# EAGLE library part 693041010711 (library WR-CRD)
WR-CRD SIM Card Connectors Characteristics Available in three form factors: Mini, Micro and Nano Available in three entry types: Push-Pull, Hinge and Push-Push Compatible with SIM and MegaSIM standards Applications Mobile Broadband Communication Internet of Things Fleet Management Security and Authentication Machine-to-Machine Communication <https://www.we-online.com/components/media/o732987v209%20693021020811_Multi-parts.jpg> Details see: www.we-online.com/components/products/WR_CRD_CARD_CONNECTOR_SIM <www.we-online.com/catalog/WR_CRD_CARD_CONNECTOR_SIM/?utm_source=eagle_model&utm_medium=description_link&utm_campaign=eisos_eagle> Created by Ella Wu 2025-04-28 2025 (C) Würth Elektronik
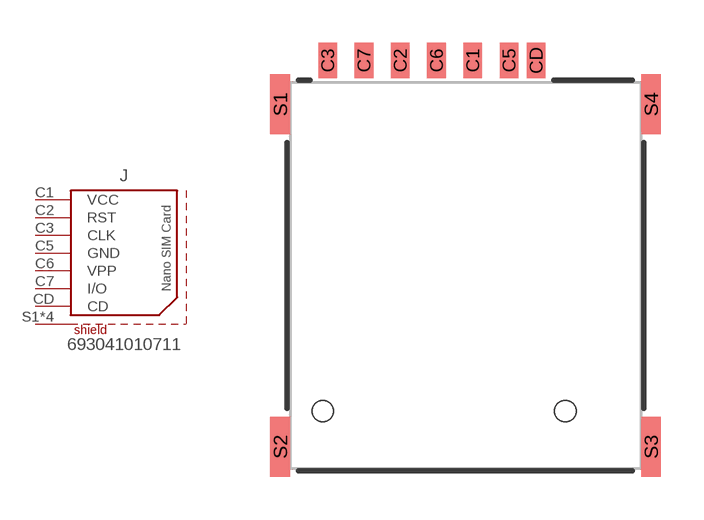
[diagram p4: symbol with the pads of 693041010711; footprint 693041010711]

Designator prefix J

## 693041010711 (DATASHEET-URL: https://www.we-online.com/redexpert/spec/693041010711?ae; DURABILITY: 10000 Mating cycles; GERDER: Receptacle; MOUNT: SMT; PART-NUMBER: 693041010711; PINS: 7pcs; SIZE: Nano SIM; TYPE: Push & Push; VALUE: 693041010711)  [693041010711]
C1  VCC  pas
C2  RST  pas
C3  CLK  pas
C5  GND  pas
C6  VPP  pas
C7  I/O  pas
CD  CD  pas
S1  SHIELD  pas
S2  SHIELD  pas
S3  SHIELD  pas
S4  SHIELD  pas

## Footprint 693041010711 (pad centres in mm)
smd 0.65 x 1.23: C1 0.25,12.285; C2 -2.29,12.285; C3 -4.83,12.285; C5 1.52,12.285; C6 -1.02,12.285; C7 -3.56,12.285; CD 2.47,12.285
smd 0.7 x 2.1: S1 -6.495,10.75; S2 -6.495,-1.25; S3 6.495,-1.25; S4 6.495,10.75
hole 0.75 at -5,0
hole 0.75 at 3.5,0